# EAGLE library part NJM2624A (library NJM2624A)
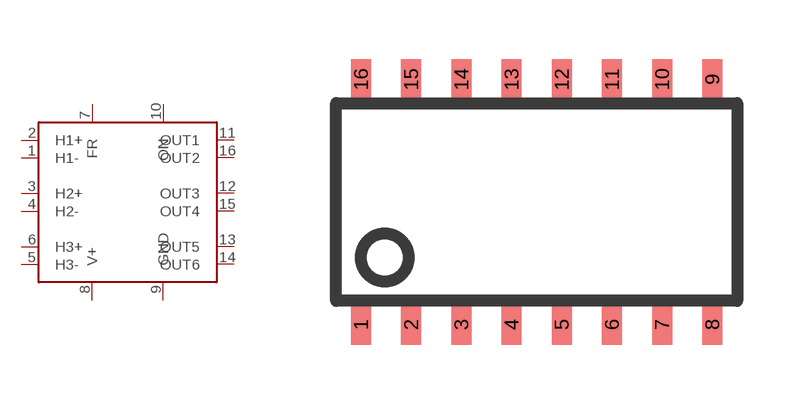
[diagram p0: symbol with the pads of DMP16; footprint DMP16]

Designator prefix -

## NJM2624A  [DMP16]
1  H1-
2  H1+
3  H2+
4  H2-
5  H3-
6  H3+
7  FR
8  V+
9  GND
10  ON
11  OUT1
12  OUT3
13  OUT5
14  OUT6
15  OUT4
16  OUT2

## Footprint DMP16 (pad centres in mm)
smd 0.508 x 1.016: 1 -4.3,-3.1; 2 -3.03,-3.1; 3 -1.76,-3.1; 4 -0.49,-3.1; 5 0.78,-3.1; 6 2.05,-3.1; 7 3.32,-3.1; 8 4.59,-3.1; 9 4.59,3.1; 10 3.32,3.1; 11 2.05,3.1; 12 0.78,3.1; 13 -0.49,3.1; 14 -1.76,3.1; 15 -3.03,3.1; 16 -4.3,3.1